# EAGLE library part 6120XX20621_61201020621 (library 61201021621_Eagle_WR-BHD_rev19b)
WR-BHD 2.54 mm Male SMT Box Header KIND PROPERTIES: Pitch 2.54 mm Gender:Male MATERIAL PROPERTIES: Insulator Material:PA6T Insulator Flammability Rating UL94 V-0 Insulator Color:Black Contact Material :Copper Alloy Contact Plating :Gold Contact Type: Stamped GENERAL INFORMATION: Operating Temperature:-40 °C up to +125 °C Compliance:RoHS Working Voltage: 250 V (AC) Withstanding Voltage:500 V (AC) Contact Resistance: 20 mΩ Insulation Resistance:1000 MΩ CERTIFICATION: UL Approval:E323964 PACKAGING PROPERTIES Packaging :Tube <https://katalog.we-online.com/media/images/v2/o32919v209%20Family_WR-BHD_612xxx20621.jpg> Details see: https://katalog.we-online.com/en/em/BHD_2_54_SMT_MALE_BOX_HEADER_6120XX20621 Updated by Yingchun,Shan 2019-10-30 2019 (C) Würth Elektronik
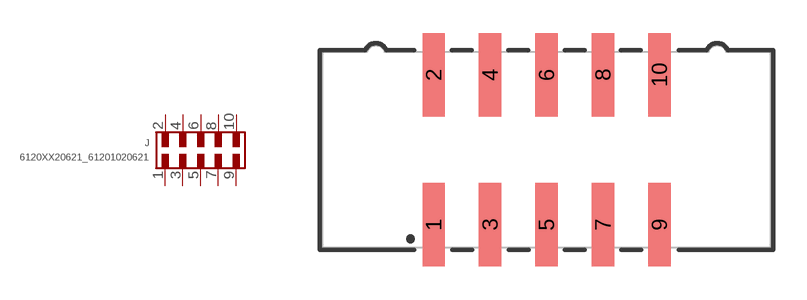
[diagram p34: symbol with the pads of 61201020621; footprint 61201020621]

Designator prefix J

## 6120XX20621_61201020621 (CONTACT-RESISTANCE: 20mOhm; DATASHEET-URL: https://katalog.we-online.com/em/datasheet/61201020621.pdf; GENDER: Male; IR: 3A; L: 20.5mm; MOUNT: SMT; PACKAGING: Tube; PART-NUMBER: 61201020621; PINS: 10; PITCH: 2.54mm; TOL-R: max.; TYPE: Straight; WORKING-VOLTAGE: 250V(AC))  [61201020621]
1  1  pas
2  2  pas
3  3  pas
4  4  pas
5  5  pas
6  6  pas
7  7  pas
8  8  pas
9  9  pas
10  10  pas

## Footprint 61201020621 (pad centres in mm)
WR-BHD 2.54 mm Male SMT Box Header,10 pins
smd 1 x 3.75: 1 -5.08,-3.375; 2 -5.08,3.375; 3 -2.54,-3.375; 4 -2.54,3.375; 5 0,-3.375; 6 0,3.375; 7 2.54,-3.375; 8 2.54,3.375; 9 5.08,-3.375; 10 5.08,3.375